# EAGLE library part 7SEG (library selfmade)
Single Digit Seven-Segment Display (cathode common) Source: LITEON .. S4301B.pdf
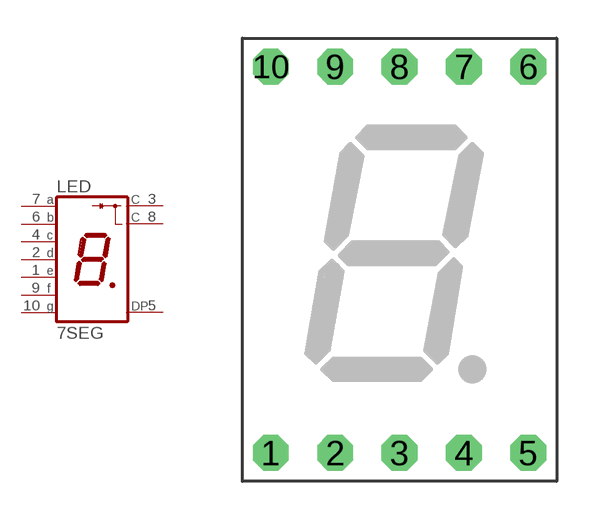
[diagram p4: symbol with the pads of KINGBRIGHT-SC52; footprint KINGBRIGHT-SC52]

Designator prefix LED

## 7SEG  [KINGBRIGHT-SC52]
1  E  pas
2  D  pas
3  C  pas
4  C  pas
5  DP  pas
6  B  pas
7  A  pas
8  C  pas
9  F  pas
10  G  pas

## Footprint KINGBRIGHT-SC52 (pad centres in mm)
Single Digit LED Numeric Display Source: LITEON .. S4301B.pdf
drill 0.9 octagon: 1 1.12,1.13; 2 3.66,1.13; 3 6.2,1.13; 4 8.74,1.13; 5 11.28,1.13; 6 11.28,16.37; 7 8.74,16.37; 8 6.2,16.37; 9 3.66,16.37; 10 1.12,16.37